# Altium schematic symbol library IGBT_GCE.Schlib: 1 symbol
Pins are listed as number, name and electrical type; pins without a type are passive.

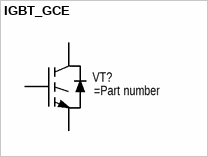
[diagram p0: symbol IGBT_GCE]

## IGBT_GCE
designator VT?
pins: 1 G, 2 C, 3 E